# EAGLE library part AD8032BRZ (library AD8032BRZ)
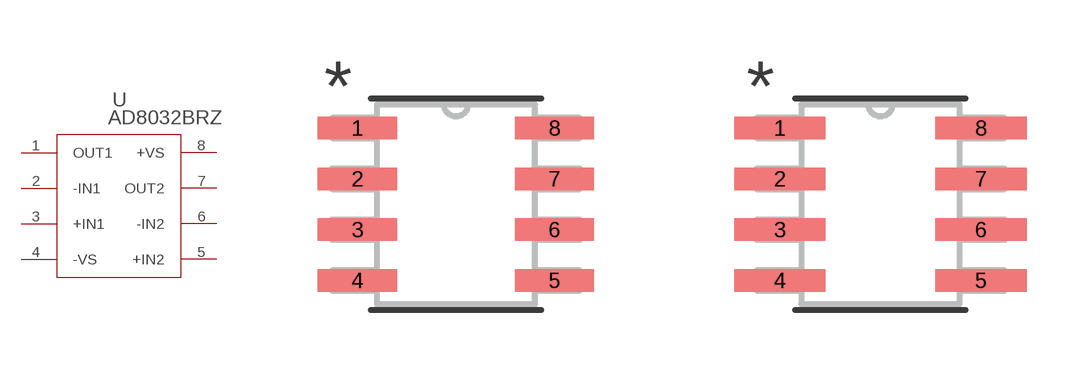
[diagram p0: symbol with the pads of R_8_ADI; footprints R_8_ADI, R_8_ADI-M]

Designator prefix U

## AD8032BRZ (COPYRIGHT: Copyright (C) 2021 Ultra Librarian. All rights reserved.; MANUFACTURER_PART_NUMBER: AD8032BRZ; MFR_NAME: Analog Devices Inc)  [R_8_ADI]
1  OUT1  pas
2  -IN1  pas
3  +IN1  pas
4  -VS  pwr
5  +IN2  pas
6  -IN2  pas
7  OUT2  pas
8  +VS  pwr

## AD8032BRZR_8_ADI-M (COPYRIGHT: Copyright (C) 2021 Ultra Librarian. All rights reserved.; MANUFACTURER_PART_NUMBER: AD8032BRZ; MFR_NAME: Analog Devices Inc)  [R_8_ADI-M]
Pads as for R_8_ADI

## AD8032BRZR_8_ADI-L (COPYRIGHT: Copyright (C) 2021 Ultra Librarian. All rights reserved.; MANUFACTURER_PART_NUMBER: AD8032BRZ; MFR_NAME: Analog Devices Inc)  [R_8_ADI-L]
Pads as for R_8_ADI

## Footprint R_8_ADI (pad centres in mm)
smd 1.981 x 0.559: 1 -2.464,1.905; 2 -2.464,0.635; 3 -2.464,-0.635; 4 -2.464,-1.905; 5 2.464,-1.905; 6 2.464,-0.635; 7 2.464,0.635; 8 2.464,1.905

## Footprint R_8_ADI-M (pad centres in mm)
smd 2.286 x 0.559: 1 -2.515,1.905; 2 -2.515,0.635; 3 -2.515,-0.635; 4 -2.515,-1.905; 5 2.515,-1.905; 6 2.515,-0.635; 7 2.515,0.635; 8 2.515,1.905

## Footprint R_8_ADI-L (pad centres in mm)
smd 1.676 x 0.508: 1 -2.413,1.905; 2 -2.413,0.635; 3 -2.413,-0.635; 4 -2.413,-1.905; 5 2.413,-1.905; 6 2.413,-0.635; 7 2.413,0.635; 8 2.413,1.905